# Altium schematic symbol library 1x8 Male Header.SCHLIB: 6 symbols
Pins are listed as number, name and electrical type; pins without a type are passive.

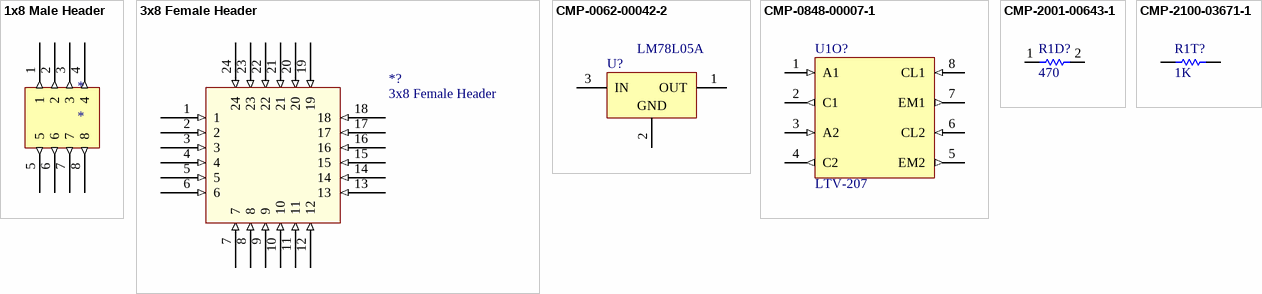
[diagram p0: symbols 1x8 Male Header to CMP-2100-03671-1]

## 1x8 Male Header
designator *
footprint 1x8 Male Header
pins: 1 (out), 2 (out), 3 (out), 4 (out), 5 (out), 6 (out), 7 (out), 8 (out)

## 3x8 Female Header
designator *?
footprint 3x8 Female Header
pins: 1 (in), 2 (in), 3 (in), 4 (in), 5 (in), 6 (in), 7 (in), 8 (in), 9 (in), 10 (in), 11 (in), 12 (in), 13 (in), 14 (in), 15 (in), 16 (in), 17 (in), 18 (in), 19 (in), 20 (in), 21 (in), 22 (in), 23 (in), 24 (in)

## CMP-0062-00042-2
designator U?, comment LM78L05A
3-Terminal Positive Regulators, 3-pin TO-92; Manufacturer: National Semiconductor; Manufacturer 1: TI National Semiconductor; Manufacturer Part Number 1: LM78L05ACZ; PackageTopMarking: NSXYTT*LM78L*05ACZ; PowerWise: N; CompType: LDO IC; PackageVersion: revG, Sep-2000; ComponentLink3Description: Z03A Package Page; ComponentLink2Description: LM78L05 Web Page; PackageDescription: TO-92, Molded, 3 Lead; RoHS: N; RevisionNote: Component URLs added; PackageReference: Z03A; ComponentLink1URL: http://www.national.com/ds/LM/LM78L05.pdf; Code_JEDEC: TO-226-AA; ComponentLink1Description: LM78L05 Datasheet; PinCount: 3; ComponentLink2URL: http://www.national.com/pf/LM/LM78L05.html; ComponentLink3URL: http://www.national.com/packaging/folders/z03a.html; DatasheetVersion: Apr-2006
footprint Z03A (TO, Flat Index; 3 In-Line, Axial Leads; Body Dia. 5mm; Leads 0.55 x 0.50 mm (max))
pins: 1 OUT (power), 2 GND (power), 3 IN (power)

## CMP-0848-00007-1
designator U1O?, comment LTV-207
Transistor Output Optocouplers SO8 100-200% 3.75KV 2CH Optocoupler; Manufacturer 1: ZMDI; Manufacturer Part Number 1: ZLED7010-ZI1R; ComponentLink1Description: Manufacturer URL; ComponentLink3Description: Package Specification; ComponentLink1URL: http://www.zmdi.com/; ComponentLink2Description: Datasheet; ComponentLink3URL: http://www.zmdi.com/sites/default/files/ZLED7001_Data_Sheet_Rev_1.1.pdf; ComponentLink2URL: http://www.zmdi.com/sites/default/files/ZLED7010_DataSheet_Rev_1.1.pdf
footprint ZMDI-SOP-8_N (SOP, 8-Leads, Body 5x4mm, Pitch 1.27mm, IPC Medium Density)
footprint ZMDI-SOP-8_M (SOP, 8-Leads, Body 5x4mm, Pitch 1.27mm, IPC Low Density)
footprint ZMDI-SOP-8_L (SOP, 8-Leads, Body 5x4mm, Pitch 1.27mm, IPC High Density)
pins: 1 A1 (in) "Anode 1", 2 C1 (out) "Cathode 1", 3 A2 (in) "Anode 1", 4 C2 (out) "Cathode 2", 5 EM2 (out) "Emitter 2", 6 CL2 (in) "Collector 2", 7 EM1 (out) "Emitter 1", 8 CL1 (in) "Collector 1"

## CMP-2001-00643-1
designator R1D?, comment 470
Part Number: ERA6AEB471V; Manufacturer: Panasonic; Manufacturer Part Number 1: ERA-6AEB471V; Manufacturer 1: Panasonic
footprint RESC2013X60X40NL20T25 (Chip Resistor, 2-Leads, Body 2.00x1.25mm, IPC Medium Density)
footprint RESC2013X60X40LL20T25 (Chip Resistor, 2-Leads, Body 2.00x1.25mm, IPC High Density)
footprint RESC2013X60X40ML20T25 (Chip Resistor, 2-Leads, Body 2.00x1.25mm, IPC Low Density)
pins: 1, 2
1 alternate drawing of the same symbol

## CMP-2100-03671-1
designator R1T?, comment 1K
Chip Resistor, 1 KOhm, +/- 1%, 125 mW, -55 to 155 degC, 0805 (2012 Metric), RoHS, Tape and Reel; Manufacturer: Yageo; Manufacturer Part Number 1: RC0805FR-071KL; Temperature Coefficient: 100ppm/degreesC; Voltage Rating (DC): 150V; Max Power Dissipation: 125mW; Resistance: 1KOhm; Number of Pins: 2; Number of Terminations: 2; Datasheet URL: http://www.yageo.com/NewPortal/yageodocoutput?fileName=/pdf/R-Chip/PYu-RC_Group_51_RoHS_L_5.pdf; Length: 0.079inch; Package Description: 2-Pin Surface Mounted Device, Body 2 x 1.25 mm; Depth: 1.25mm; Height: 0.024inch; Military Standard: Not; Case/Package: 0805; Package Reference: 0805; RoHSCompliant: true; Lead Free: LeadFree; Packaging: TapeandReel; Package Quantity: 1; Datasheet Version: Rev. 5, 10/2016; Tolerance: 1%; Min Operating Temperature: -55degC; Voltage Rating: 150V; Composition: ThickFilm; Case Code (Imperial): 0805; Power Rating: 125mW; Width: 0.049inch; Case Code (Metric): 2012; Manufacturer URL: http://www.yageo.com/; Max Operating Temperature: 155degC; REACH SVHC: Unknown; Termination: SMD/SMT; Manufacturer 1: Yageo
footprint RESC2013X60X35ML10T20 (Chip Resistor, 2-Leads, Body 2.1x1.35mm, IPC Low Density)
footprint RESC2013X60X35NL10T20 (Chip Resistor, 2-Leads, Body 2.1x1.35mm, IPC Medium Density)
footprint RESC2013X60X35LL10T20 (Chip Resistor, 2-Leads, Body 2.00x1.25mm, IPC High Density)
pins: 1, 2